# Altium footprint library UCC28180-V03.PcbLib: 49 footprints (part 3 of 4)
Each footprint in its own frame and in the unit in brackets; x right, y up, seen from the top. Pads: shape width x height; smd on the part's side, far side on the other; paste and mask are expansions set on the pad; w line width, h text height; cw(c..) or ccw(c..) is an arc to the next point about the centre after c.
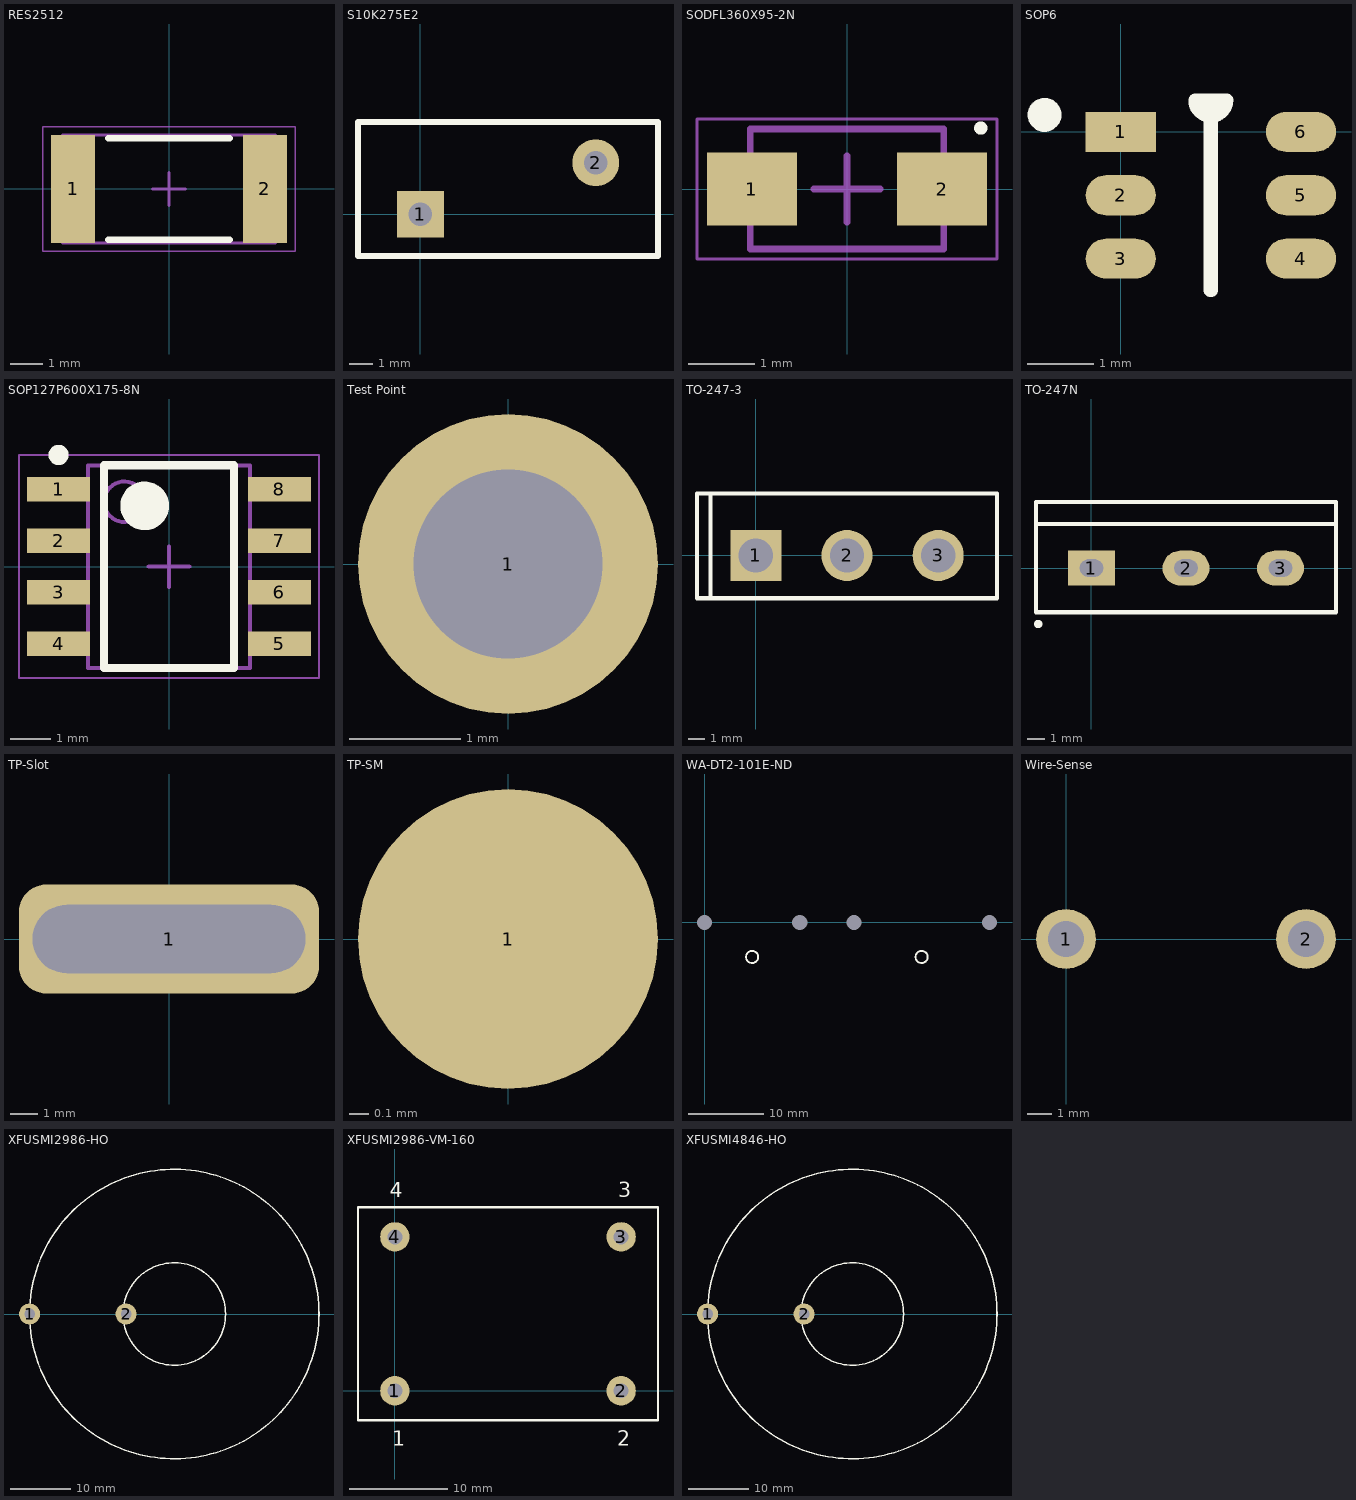
[diagram p2: the footprints below, top view; thin cyan lines are the x and y axes]

## RES2512 [mm]
height 0.7
pads (2):
  rect 1.35x3.3 smd: 1(-2.925,0) 2(2.925,0)
Top Overlay:
  lines w0.2: -1.85,-1.55 1.85,-1.55 ; -1.85,1.55 1.85,1.55
Mechanical 13:
  lines w0.1: -3.25,-1.65 3.25,-1.65 3.25,1.65 -3.25,1.65 -3.25,-1.65
Mechanical 15:
  lines w0.05: -3.85,-1.9 3.85,-1.9 3.85,1.9 -3.85,1.9 -3.85,-1.9
  lines w0.1: -0.5,0 0.5,0 ; 0,-0.5 0,0.5
3D body: height 0.7, standoff 0, extent 2.65,-1.65 3.25,1.65
3D body: height 0.7, standoff 0, extent -3.25,-1.65 -2.65,1.65
3D body: height 0.7, standoff 0, extent -2.65,-1.65 2.65,1.65

## S10K275E2 [mm] "Varistor"
pads (2):
  rect 2x2 hole 1: 1(0,0)
  round 2 hole 1: 2(7.5,2.2)
Top Overlay:
  lines w0.254: -2.667,-1.778 -2.667,3.937 10.16,3.937 10.16,-1.778 -2.667,-1.778

## SOD-123FL [mm] "Schottky Diode"

## SODFL360X95-2N [mm] "SODFL, 2-Leads, Body 1.65x3.60mm, IPC Medium Density"
height 0.95
pads (2):
  rect 1.35x1.1 smd: 1(-1.425,0) 2(1.425,0)
Top Overlay:
  lines w0.1: 2.057,0.914 cw(c2.007,0.914) 2.057,0.915
Mechanical 13:
  lines w0.1: -1.45,-0.9 1.45,-0.9 1.45,0.9 -1.45,0.9 -1.45,-0.9
Mechanical 15:
  lines w0.05: -2.25,-1.05 2.25,-1.05 2.25,1.05 -2.25,1.05 -2.25,-1.05
  lines w0.1: -0.5,0 0.5,0 ; 0,-0.5 0,0.5
3D body: height 0.95, standoff 0, extent -1.45,-0.9 1.45,0.9

## SOP6 [mm]
pads (6):
  rect 1.05x0.6 smd: 1(0,0)
  oval 1.05x0.6 smd: 2(0,-0.95) 3(0,-1.9) 4(2.7,-1.9) 5(2.7,-0.95) 6(2.7,0)
Top Overlay:
  circle w0.254: c-1.143,0.254 r0.127
  lines w0.2: 1.112,0.475 ccw(c1.35,0.475) 1.587,0.475 1.34,0.475 1.34,-2.375 1.36,-2.375 1.36,0.475 1.112,0.475
3D body: height 2, standoff 0, extent 0.673,-2.337 2.019,0.457

## SOP127P600X175-8N [mm] "SOP, 8-Leads, Body 4.90x3.90mm, Pitch 1.27mm, IPC Medium Density"
height 1.75
pads (8):
  rect 1.55x0.6 smd: 1(-2.725,1.905) 2(-2.725,0.635) 3(-2.725,-0.635) 4(-2.725,-1.905) 5(2.725,-1.905) 6(2.725,-0.635) 7(2.725,0.635) 8(2.725,1.905)
Top Overlay:
  circle w0.25: c-2.725,2.755 r0.125
  circle w0.6: c-0.6,1.5 r0.3
  lines w0.2: -1.6,-2.5 -1.6,2.5 1.6,2.5 1.6,-2.5 -1.6,-2.5
Mechanical 13:
  circle w0.1: c-1.1,1.6 r0.5
  lines w0.1: -2,-2.5 -2,2.5 2,2.5 2,-2.5 -2,-2.5
Mechanical 15:
  lines w0.05: -3.7,-2.75 -3.7,2.75 3.7,2.75 3.7,-2.75 -3.7,-2.75
  lines w0.1: -0.5,0 0.5,0 ; 0,-0.5 0,0.5
3D body: height 1.75, standoff 0.25, extent -2,-2.5 2,2.5

## Test Point [mm] "Test Point"
pads (1):
  round 2.7 hole 1.7: 1(0,0)
3D body "keystone-PN5006.STEP": height 5.49, standoff -3.43, extent -1.626,-1.499 1.549,1.676

## TO-247-3 [mm] "Transistor"
pads (3):
  rect 3.04x3.04 hole 2.03: 1(0,0)
  round 3.04 hole 2.03: 2(5.43,0) 3(10.86,0)
Top Overlay:
  lines w0.254: -3.5,2.311 -3.5,3.683 -3.302,3.683 14.36,3.683 14.36,2.311 ; -3.5,2.54 -3.5,-2.54 14.36,-2.54 14.36,2.54 ; -2.692,-2.438 -2.692,3.683

## TO-247N [mm] "Transistor"
pads (3):
  rect 2.7x2 hole 1 slot 1.35 at 0 deg: 1(0,0)
  oval 2.7x2 hole 1 slot 1.35 at 0 deg: 2(5.45,0) 3(10.9,0)
Top Overlay:
  circle w0.254: c-3.073,-3.226 r0.114
  lines w0.254: -3.2,2.54 -3.2,3.785 -3.175,3.81 14.097,3.81 14.1,3.807 14.1,2.54 ; -3.2,2.54 14.1,2.54 ; -3.2,2.54 -3.2,-2.54 14.1,-2.54 14.1,2.54
3D body "TO-247H.STEP": height 5.01, standoff -6.89, extent -2.263,-25.095 13.236,0.305

## TP-Slot [mm] "Special Test point-Slot"
pads (1):
  rrect50% 11x4 hole 2.5 slot 10 at 0 deg: 1(0,0)

## TP-SM [mil] "Special Testpoint-Surface Mount"
pads (1):
  round 60 all layers, no hole: 1(0,0)

## WA-DT2-101E-ND [mm] "Heatsunk"
pads (4):
  round 0 / inner round 0 / far side round 3 hole 2: 1(0,0) 2(12.7,0) 3(19.9,0) 4(38,0)
Top Overlay:
  circle w0.254: c28.95,-4.6 r0.806
  circle w0.254: c6.35,-4.6 r0.806
3D body: height 7.25, standoff -13, extent -5,0 43,7
3D body: height 7.25, standoff -13, extent -5,-9 -3,0
3D body: height 7.25, standoff -13, extent 41,-9 43,0

## Wire-Sense [mm] "Current Sense"
pads (2):
  round 2.5 hole 1.5: 1(0,0) 2(10,0)

## XFUSMI2986-HO [mm] "Boost Inductor"
pads (2):
  round 3.5 hole 1.75: 1(20,0) 2(36,0)
Top Overlay:
  circle w0.254: c44,0 r24
  circle w0.254: c44,0 r8.5
3D body "Inductor-XFMRS1642.STEP": height 22.87, standoff 0.01, extent 20.269,-23.724 67.767,23.774

## XFUSMI2986-VM-160 [mm] "Boost Inductor"
pads (4):
  round 3 hole 1.5: 1(0,0) 2(23,0) 3(23,15.65) 4(0,15.65)
Top Overlay:
  lines w0.254: -3.75,-3 -3.75,18.65 26.75,18.65 26.75,-3 -3.75,-3
  text "4" at -0.508,19.685 h1.52
  text "3" at 22.733,19.685 h1.52
  text "2" at 22.606,-5.588 h1.52
  text "1" at -0.254,-5.588 h1.52

## XFUSMI4846-HO [mm] "Boost Inductor"
pads (2):
  round 3.5 hole 1.75: 1(20,0) 2(36,0)
Top Overlay:
  circle w0.254: c44,0 r8.5
  circle w0.254: c44,0 r24
3D body "Inductor-XFMRS1642.STEP": height 22.87, standoff 0.01, extent 19.939,-23.063 67.437,24.435